# EAGLE library part 127HEADER (library duckgauge)
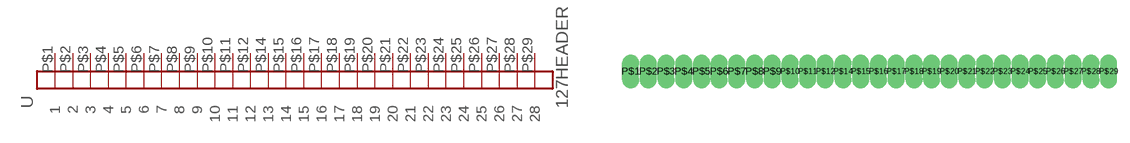
[diagram p4: symbol with the pads of 1.27HEADER; footprint 1.27HEADER]

Designator prefix -

## 127HEADER  [1.27HEADER]
P$1  1
P$2  2
P$3  3
P$4  4
P$5  5
P$6  6
P$7  7
P$8  8
P$9  9
P$10  10
P$11  11
P$12  12
P$14  13
P$15  14
P$16  15
P$17  16
P$18  17
P$19  18
P$20  19
P$21  20
P$22  21
P$23  22
P$24  23
P$25  24
P$26  25
P$27  26
P$28  27
P$29  28

## Footprint 1.27HEADER (pad centres in mm)
drill 0.7 pad 0.813 long: P$1 0.406,0.457; P$2 1.676,0.457; P$3 2.946,0.457; P$4 4.216,0.457; P$5 5.486,0.457; P$6 6.756,0.457; P$7 8.026,0.457; P$8 9.296,0.457; P$9 10.566,0.457; P$10 11.836,0.457; P$11 13.106,0.457; P$12 14.376,0.457; P$14 15.646,0.457; P$15 16.916,0.457; P$16 18.186,0.457; P$17 19.456,0.457; P$18 20.726,0.457; P$19 21.996,0.457; P$20 23.266,0.457; P$21 24.536,0.457; P$22 25.806,0.457; P$23 27.076,0.457; P$24 28.346,0.457; P$25 29.616,0.457; P$26 30.886,0.457; P$27 32.156,0.457; P$28 33.426,0.457; P$29 34.696,0.457